# Altium integrated library Linear Technology Power Management Hot Swap Controllers.IntLib: 992 symbols (part 29 of 93)
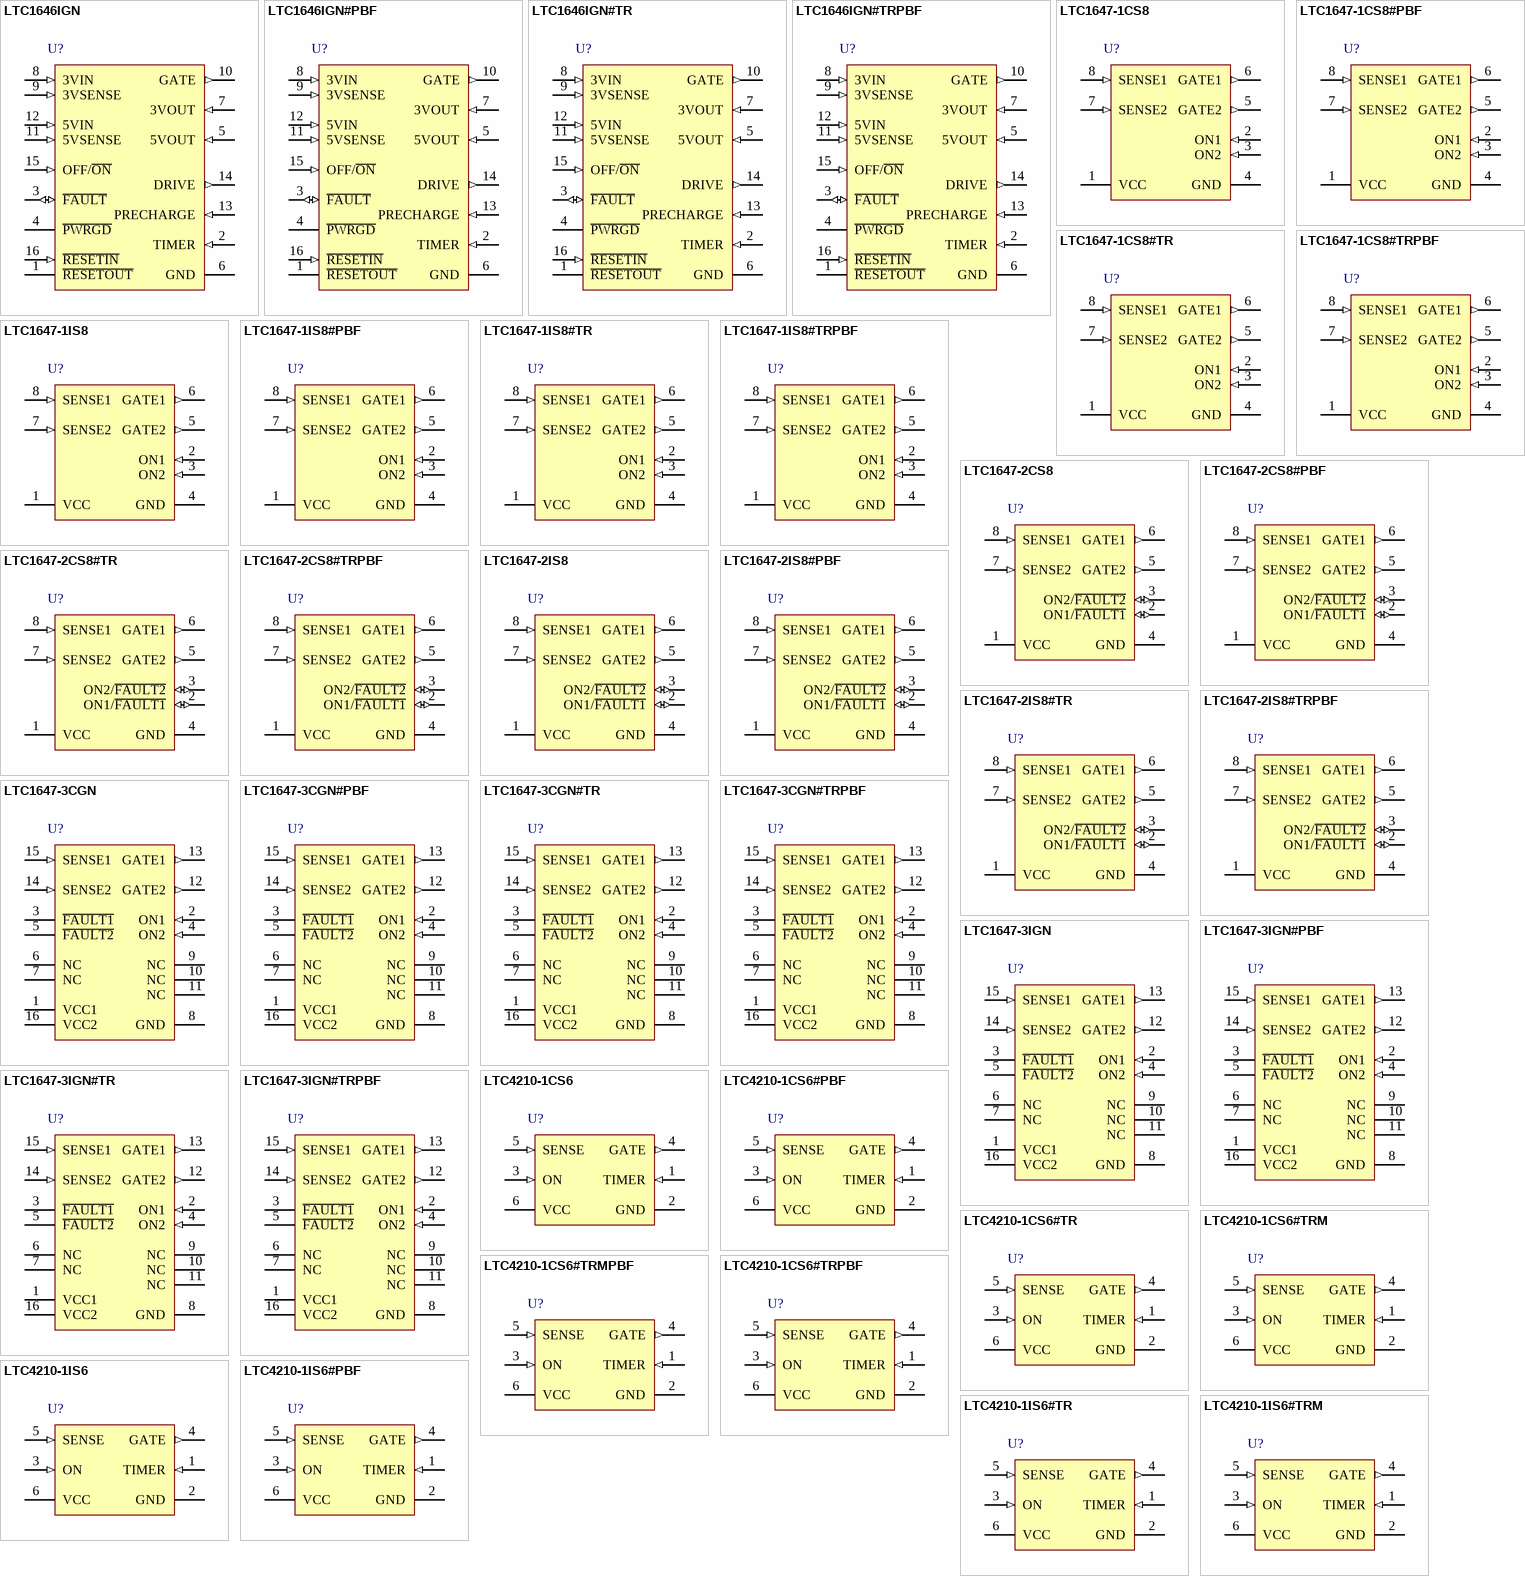
[diagram p65: symbols LTC1646IGN to LTC4210-1IS6#TRM]

## LTC4210-1IS6#PBF
designator U?
Hot Swap Controller, 2.7 to 16.5 V Vin, 6-pin SOT23 (S6-6), -40 to 85 degC, Pb-Free; Manufacturer: Linear Technology; PartNumber: LTC4210-1IS6#PBF; Active Limiting: yes; Circuit Breaker Accuracy(%): 12; Circuit Breaker Threshold: 50 mV; Circuit Breakers(#): 1; Extended Temp: C, I; Fast Comparator: no; In-Rush Current: Active; PackageVersion: Jun-10; PackageReference: S6-6; PackageDescription: 6-Pin Plastic TSOT-23, Body 2.9 x 1.63 mm, Pitch 0.95 mm; Supplier 1: Farnell; Supplier Part Number 1: 2308154; Supplier 2: Newark; Supplier Part Number 2: 78T3308; Fault: no; Foldback: no; Power Good: no; Reset: no; RoHS: TRUE; Vin Range: 2.7 to 16.5 V; Mounting Technology: Surface Mount; Code_JEDEC: MO-193; ComponentLink1Description: Manufacturer URL; ComponentLink1URL: http://www.linear.com/; ComponentLink2Description: Datasheet; ComponentLink2URL: http://cds.linear.com/docs/en/datasheet/421012f.pdf; ComponentLink3Description: Package Specification; ComponentLink3URL: http://cds.linear.com/docs/en/packaging/SOT_6_05-08-1636.pdf
footprint LT-S6-6-TSOT-23_N (SOT23, 6-Leads, Body 2.9x1.75mm, Pitch 0.95mm, IPC Medium Density)
footprint LT-S6-6-TSOT-23_L (SOT23, 6-Leads, Body 2.9x1.75mm, Pitch 0.95mm, IPC High Density)
footprint LT-S6-6-TSOT-23_M (SOT23, 6-Leads, Body 2.9x1.75mm, Pitch 0.95mm, IPC Low Density)
pins: 1 TIMER (in) "Timer Input Pin. An external capacitor CTIMER sets a 272.9ms/µF initial timing delay and a 21.7ms/µF circuit breaker delay. (See Datasheet)", 2 GND (power) "GND (Pin 2): Ground Pin.", 3 ON (in) "ON (Pin 3): ON Input Pin. The ON pin comparator has a low-to-high threshold of 1.3V with 80mV hysteresis and a glitch filter. When the ON pin is low, the LTC4210 is reset. When the ON pin goes high, the GATE turns on after (See Datasheet)", 4 GATE (out) "GATE Output Pin. This pin is the high side gate drive of an external N-channel MOSFET. An internal charge pump provides a 10µA pull-up current with Zener clamps to VCC and ground. (See Datasheet)", 5 SENSE (in) "SENSE (Pin 5): Current Limit Sense Input Pin. A sense resistor between the VCC and SENSE pins sets the analog current limit. In overload, the EA controls the external MOSFET gate to maintain the SENSE pin voltage at 50mV (See Datasheet)", 6 VCC (power) "Positive Supply Input Pin. The operating supply voltage range is between 2.7V to 7V. An undervoltage lockout (UVLO) circuit with a glitch filter resets the LTC4210 when a low supply voltage is detected. (See Datasheet)"

## LTC4210-1IS6#TR
designator U?
Hot Swap Controller, 2.7 to 16.5 V Vin, 6-pin SOT23 (S6-6), -40 to 85 degC, Tape and Reel; Manufacturer: Linear Technology; PartNumber: LTC4210-1IS6#TR; Active Limiting: yes; Circuit Breaker Accuracy(%): 12; Circuit Breaker Threshold: 50 mV; Circuit Breakers(#): 1; Extended Temp: C, I; Fast Comparator: no; In-Rush Current: Active; PackageVersion: Jun-10; PackageReference: S6-6; PackageDescription: 6-Pin Plastic TSOT-23, Body 2.9 x 1.63 mm, Pitch 0.95 mm; Supplier 1: Digi-Key; Supplier Part Number 1: LTC4210-1IS6#TR-ND; Supplier 2: Newark; Supplier Part Number 2: 56M8739; Fault: no; Foldback: no; Packing: Tape and Reel; Power Good: no; Reset: no; RoHS: FALSE; Vin Range: 2.7 to 16.5 V; Mounting Technology: Surface Mount; Code_JEDEC: MO-193; ComponentLink1Description: Manufacturer URL; ComponentLink1URL: http://www.linear.com/; ComponentLink2Description: Datasheet; ComponentLink2URL: http://cds.linear.com/docs/en/datasheet/421012f.pdf; ComponentLink3Description: Package Specification; ComponentLink3URL: http://cds.linear.com/docs/en/packaging/SOT_6_05-08-1636.pdf
footprint LT-S6-6-TSOT-23_N (SOT23, 6-Leads, Body 2.9x1.75mm, Pitch 0.95mm, IPC Medium Density)
footprint LT-S6-6-TSOT-23_L (SOT23, 6-Leads, Body 2.9x1.75mm, Pitch 0.95mm, IPC High Density)
footprint LT-S6-6-TSOT-23_M (SOT23, 6-Leads, Body 2.9x1.75mm, Pitch 0.95mm, IPC Low Density)
pins: 1 TIMER (in) "Timer Input Pin. An external capacitor CTIMER sets a 272.9ms/µF initial timing delay and a 21.7ms/µF circuit breaker delay. (See Datasheet)", 2 GND (power) "GND (Pin 2): Ground Pin.", 3 ON (in) "ON (Pin 3): ON Input Pin. The ON pin comparator has a low-to-high threshold of 1.3V with 80mV hysteresis and a glitch filter. When the ON pin is low, the LTC4210 is reset. When the ON pin goes high, the GATE turns on after (See Datasheet)", 4 GATE (out) "GATE Output Pin. This pin is the high side gate drive of an external N-channel MOSFET. An internal charge pump provides a 10µA pull-up current with Zener clamps to VCC and ground. (See Datasheet)", 5 SENSE (in) "SENSE (Pin 5): Current Limit Sense Input Pin. A sense resistor between the VCC and SENSE pins sets the analog current limit. In overload, the EA controls the external MOSFET gate to maintain the SENSE pin voltage at 50mV (See Datasheet)", 6 VCC (power) "Positive Supply Input Pin. The operating supply voltage range is between 2.7V to 7V. An undervoltage lockout (UVLO) circuit with a glitch filter resets the LTC4210 when a low supply voltage is detected. (See Datasheet)"

## LTC4210-1IS6#TRM
designator U?
Hot Swap Controller, 2.7 to 16.5 V Vin, 6-pin SOT23 (S6-6), -40 to 85 degC, Mini Tape and Reel; Manufacturer: Linear Technology; PartNumber: LTC4210-1IS6#TRM; Active Limiting: yes; Circuit Breaker Accuracy(%): 12; Circuit Breaker Threshold: 50 mV; Circuit Breakers(#): 1; Extended Temp: C, I; Fast Comparator: no; In-Rush Current: Active; PackageVersion: Jun-10; PackageReference: S6-6; PackageDescription: 6-Pin Plastic TSOT-23, Body 2.9 x 1.63 mm, Pitch 0.95 mm; Supplier 1: Digi-Key; Supplier Part Number 1: LTC4210-1IS6#TRMTR-ND; Supplier 2: Digi-Key; Supplier Part Number 2: LTC4210-1IS6#TRMCT-ND; Fault: no; Foldback: no; Packing: Mini Tape and Reel; Power Good: no; Reset: no; RoHS: FALSE; Vin Range: 2.7 to 16.5 V; Mounting Technology: Surface Mount; Code_JEDEC: MO-193; ComponentLink1Description: Manufacturer URL; ComponentLink1URL: http://www.linear.com/; ComponentLink2Description: Datasheet; ComponentLink2URL: http://cds.linear.com/docs/en/datasheet/421012f.pdf; ComponentLink3Description: Package Specification; ComponentLink3URL: http://cds.linear.com/docs/en/packaging/SOT_6_05-08-1636.pdf
footprint LT-S6-6-TSOT-23_N (SOT23, 6-Leads, Body 2.9x1.75mm, Pitch 0.95mm, IPC Medium Density)
footprint LT-S6-6-TSOT-23_L (SOT23, 6-Leads, Body 2.9x1.75mm, Pitch 0.95mm, IPC High Density)
footprint LT-S6-6-TSOT-23_M (SOT23, 6-Leads, Body 2.9x1.75mm, Pitch 0.95mm, IPC Low Density)
pins: 1 TIMER (in) "Timer Input Pin. An external capacitor CTIMER sets a 272.9ms/µF initial timing delay and a 21.7ms/µF circuit breaker delay. (See Datasheet)", 2 GND (power) "GND (Pin 2): Ground Pin.", 3 ON (in) "ON (Pin 3): ON Input Pin. The ON pin comparator has a low-to-high threshold of 1.3V with 80mV hysteresis and a glitch filter. When the ON pin is low, the LTC4210 is reset. When the ON pin goes high, the GATE turns on after (See Datasheet)", 4 GATE (out) "GATE Output Pin. This pin is the high side gate drive of an external N-channel MOSFET. An internal charge pump provides a 10µA pull-up current with Zener clamps to VCC and ground. (See Datasheet)", 5 SENSE (in) "SENSE (Pin 5): Current Limit Sense Input Pin. A sense resistor between the VCC and SENSE pins sets the analog current limit. In overload, the EA controls the external MOSFET gate to maintain the SENSE pin voltage at 50mV (See Datasheet)", 6 VCC (power) "Positive Supply Input Pin. The operating supply voltage range is between 2.7V to 7V. An undervoltage lockout (UVLO) circuit with a glitch filter resets the LTC4210 when a low supply voltage is detected. (See Datasheet)"

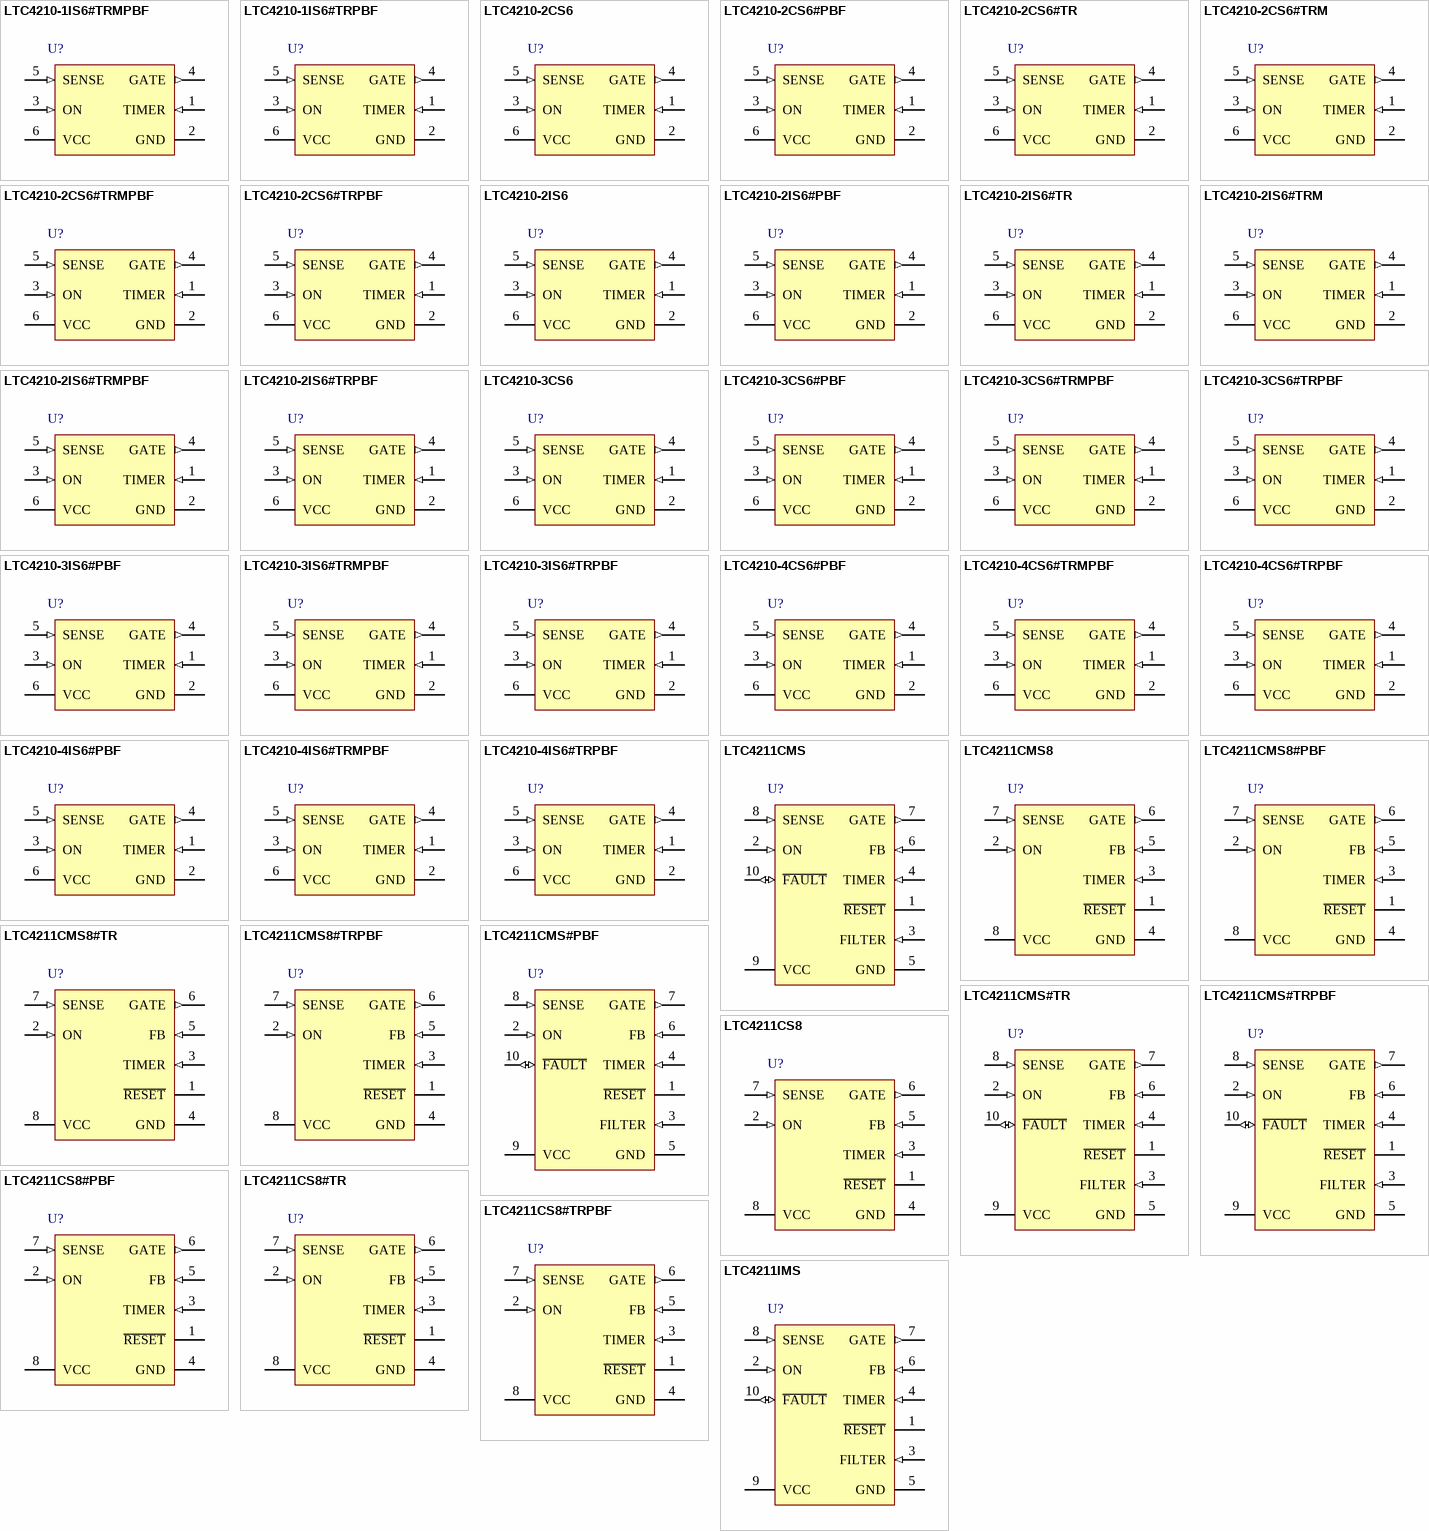
[diagram p12: symbols LTC4210-1IS6#TRMPBF to LTC4211IMS]

## LTC4210-1IS6#TRMPBF
designator U?
Hot Swap Controller, 2.7 to 16.5 V Vin, 6-pin SOT23 (S6-6), -40 to 85 degC, Pb-Free, Mini Tape and Reel; Manufacturer: Linear Technology; PartNumber: LTC4210-1IS6#TRMPBF; Active Limiting: yes; Circuit Breaker Accuracy(%): 12; Circuit Breaker Threshold: 50 mV; Circuit Breakers(#): 1; Extended Temp: C, I; Fast Comparator: no; In-Rush Current: Active; PackageVersion: Jun-10; PackageReference: S6-6; PackageDescription: 6-Pin Plastic TSOT-23, Body 2.9 x 1.63 mm, Pitch 0.95 mm; Supplier 1: Digi-Key; Supplier Part Number 1: LTC4210-1IS6#TRMPBFTR-ND; Supplier 2: Digi-Key; Supplier Part Number 2: LTC4210-1IS6#TRMPBFCT-ND; Supplier 3: Digi-Key; Supplier Part Number 3: LTC4210-1IS6#TRMPBFDKR-ND; Supplier 4: Farnell; Supplier Part Number 4: 1663912; Supplier 5: Newark; Supplier Part Number 5: 59M8275; Supplier 6: Newark; Supplier Part Number 6: 56M8741; Fault: no; Foldback: no; Packing: Mini Tape and Reel; Power Good: no; Reset: no; RoHS: TRUE; Vin Range: 2.7 to 16.5 V; Mounting Technology: Surface Mount; Code_JEDEC: MO-193; ComponentLink1Description: Manufacturer URL; ComponentLink1URL: http://www.linear.com/; ComponentLink2Description: Datasheet; ComponentLink2URL: http://cds.linear.com/docs/en/datasheet/421012f.pdf; ComponentLink3Description: Package Specification; ComponentLink3URL: http://cds.linear.com/docs/en/packaging/SOT_6_05-08-1636.pdf
footprint LT-S6-6-TSOT-23_N (SOT23, 6-Leads, Body 2.9x1.75mm, Pitch 0.95mm, IPC Medium Density)
footprint LT-S6-6-TSOT-23_L (SOT23, 6-Leads, Body 2.9x1.75mm, Pitch 0.95mm, IPC High Density)
footprint LT-S6-6-TSOT-23_M (SOT23, 6-Leads, Body 2.9x1.75mm, Pitch 0.95mm, IPC Low Density)
pins: 1 TIMER (in) "Timer Input Pin. An external capacitor CTIMER sets a 272.9ms/µF initial timing delay and a 21.7ms/µF circuit breaker delay. (See Datasheet)", 2 GND (power) "GND (Pin 2): Ground Pin.", 3 ON (in) "ON (Pin 3): ON Input Pin. The ON pin comparator has a low-to-high threshold of 1.3V with 80mV hysteresis and a glitch filter. When the ON pin is low, the LTC4210 is reset. When the ON pin goes high, the GATE turns on after (See Datasheet)", 4 GATE (out) "GATE Output Pin. This pin is the high side gate drive of an external N-channel MOSFET. An internal charge pump provides a 10µA pull-up current with Zener clamps to VCC and ground. (See Datasheet)", 5 SENSE (in) "SENSE (Pin 5): Current Limit Sense Input Pin. A sense resistor between the VCC and SENSE pins sets the analog current limit. In overload, the EA controls the external MOSFET gate to maintain the SENSE pin voltage at 50mV (See Datasheet)", 6 VCC (power) "Positive Supply Input Pin. The operating supply voltage range is between 2.7V to 7V. An undervoltage lockout (UVLO) circuit with a glitch filter resets the LTC4210 when a low supply voltage is detected. (See Datasheet)"

## LTC4210-1IS6#TRPBF
designator U?
Hot Swap Controller, 2.7 to 16.5 V Vin, 6-pin SOT23 (S6-6), -40 to 85 degC, Pb-Free, Tape and Reel; Manufacturer: Linear Technology; PartNumber: LTC4210-1IS6#TRPBF; Active Limiting: yes; Circuit Breaker Accuracy(%): 12; Circuit Breaker Threshold: 50 mV; Circuit Breakers(#): 1; Extended Temp: C, I; Fast Comparator: no; In-Rush Current: Active; PackageVersion: Jun-10; PackageReference: S6-6; PackageDescription: 6-Pin Plastic TSOT-23, Body 2.9 x 1.63 mm, Pitch 0.95 mm; Supplier 1: Digi-Key; Supplier Part Number 1: LTC4210-1IS6#TRPBF-ND; Supplier 2: Newark; Supplier Part Number 2: 56M8742; Fault: no; Foldback: no; Packing: Tape and Reel; Power Good: no; Reset: no; RoHS: TRUE; Vin Range: 2.7 to 16.5 V; Mounting Technology: Surface Mount; Code_JEDEC: MO-193; ComponentLink1Description: Manufacturer URL; ComponentLink1URL: http://www.linear.com/; ComponentLink2Description: Datasheet; ComponentLink2URL: http://cds.linear.com/docs/en/datasheet/421012f.pdf; ComponentLink3Description: Package Specification; ComponentLink3URL: http://cds.linear.com/docs/en/packaging/SOT_6_05-08-1636.pdf
footprint LT-S6-6-TSOT-23_N (SOT23, 6-Leads, Body 2.9x1.75mm, Pitch 0.95mm, IPC Medium Density)
footprint LT-S6-6-TSOT-23_L (SOT23, 6-Leads, Body 2.9x1.75mm, Pitch 0.95mm, IPC High Density)
footprint LT-S6-6-TSOT-23_M (SOT23, 6-Leads, Body 2.9x1.75mm, Pitch 0.95mm, IPC Low Density)
pins: 1 TIMER (in) "Timer Input Pin. An external capacitor CTIMER sets a 272.9ms/µF initial timing delay and a 21.7ms/µF circuit breaker delay. (See Datasheet)", 2 GND (power) "GND (Pin 2): Ground Pin.", 3 ON (in) "ON (Pin 3): ON Input Pin. The ON pin comparator has a low-to-high threshold of 1.3V with 80mV hysteresis and a glitch filter. When the ON pin is low, the LTC4210 is reset. When the ON pin goes high, the GATE turns on after (See Datasheet)", 4 GATE (out) "GATE Output Pin. This pin is the high side gate drive of an external N-channel MOSFET. An internal charge pump provides a 10µA pull-up current with Zener clamps to VCC and ground. (See Datasheet)", 5 SENSE (in) "SENSE (Pin 5): Current Limit Sense Input Pin. A sense resistor between the VCC and SENSE pins sets the analog current limit. In overload, the EA controls the external MOSFET gate to maintain the SENSE pin voltage at 50mV (See Datasheet)", 6 VCC (power) "Positive Supply Input Pin. The operating supply voltage range is between 2.7V to 7V. An undervoltage lockout (UVLO) circuit with a glitch filter resets the LTC4210 when a low supply voltage is detected. (See Datasheet)"

## LTC4210-2CS6
designator U?
Hot Swap Controller, 2.7 to 16.5 V Vin, 6-pin SOT23 (S6-6), 0 to 70 degC; Manufacturer: Linear Technology; PartNumber: LTC4210-2CS6; Active Limiting: yes; Circuit Breaker Accuracy(%): 12; Circuit Breaker Threshold: 50 mV; Circuit Breakers(#): 1; Extended Temp: C, I; Fast Comparator: no; In-Rush Current: Active; PackageVersion: Jun-10; PackageReference: S6-6; PackageDescription: 6-Pin Plastic TSOT-23, Body 2.9 x 1.63 mm, Pitch 0.95 mm; Fault: no; Foldback: no; Power Good: no; Reset: no; RoHS: FALSE; Vin Range: 2.7 to 16.5 V; Mounting Technology: Surface Mount; Code_JEDEC: MO-193; ComponentLink1Description: Manufacturer URL; ComponentLink1URL: http://www.linear.com/; ComponentLink2Description: Datasheet; ComponentLink2URL: http://cds.linear.com/docs/en/datasheet/421012f.pdf; ComponentLink3Description: Package Specification; ComponentLink3URL: http://cds.linear.com/docs/en/packaging/SOT_6_05-08-1636.pdf
footprint LT-S6-6-TSOT-23_N (SOT23, 6-Leads, Body 2.9x1.75mm, Pitch 0.95mm, IPC Medium Density)
footprint LT-S6-6-TSOT-23_L (SOT23, 6-Leads, Body 2.9x1.75mm, Pitch 0.95mm, IPC High Density)
footprint LT-S6-6-TSOT-23_M (SOT23, 6-Leads, Body 2.9x1.75mm, Pitch 0.95mm, IPC Low Density)
pins: 1 TIMER (in) "Timer Input Pin. An external capacitor CTIMER sets a 272.9ms/µF initial timing delay and a 21.7ms/µF circuit breaker delay. (See Datasheet)", 2 GND (power) "GND (Pin 2): Ground Pin.", 3 ON (in) "ON (Pin 3): ON Input Pin. The ON pin comparator has a low-to-high threshold of 1.3V with 80mV hysteresis and a glitch filter. When the ON pin is low, the LTC4210 is reset. When the ON pin goes high, the GATE turns on after (See Datasheet)", 4 GATE (out) "GATE Output Pin. This pin is the high side gate drive of an external N-channel MOSFET. An internal charge pump provides a 10µA pull-up current with Zener clamps to VCC and ground. (See Datasheet)", 5 SENSE (in) "SENSE (Pin 5): Current Limit Sense Input Pin. A sense resistor between the VCC and SENSE pins sets the analog current limit. In overload, the EA controls the external MOSFET gate to maintain the SENSE pin voltage at 50mV (See Datasheet)", 6 VCC (power) "Positive Supply Input Pin. The operating supply voltage range is between 2.7V to 7V. An undervoltage lockout (UVLO) circuit with a glitch filter resets the LTC4210 when a low supply voltage is detected. (See Datasheet)"

## LTC4210-2CS6#PBF
designator U?
Hot Swap Controller, 2.7 to 16.5 V Vin, 6-pin SOT23 (S6-6), 0 to 70 degC, Pb-Free; Manufacturer: Linear Technology; PartNumber: LTC4210-2CS6#PBF; Active Limiting: yes; Circuit Breaker Accuracy(%): 12; Circuit Breaker Threshold: 50 mV; Circuit Breakers(#): 1; Extended Temp: C, I; Fast Comparator: no; In-Rush Current: Active; PackageVersion: Jun-10; PackageReference: S6-6; PackageDescription: 6-Pin Plastic TSOT-23, Body 2.9 x 1.63 mm, Pitch 0.95 mm; Supplier 1: Newark; Supplier Part Number 1: 64T2760; Fault: no; Foldback: no; Power Good: no; Reset: no; RoHS: TRUE; Vin Range: 2.7 to 16.5 V; Mounting Technology: Surface Mount; Code_JEDEC: MO-193; ComponentLink1Description: Manufacturer URL; ComponentLink1URL: http://www.linear.com/; ComponentLink2Description: Datasheet; ComponentLink2URL: http://cds.linear.com/docs/en/datasheet/421012f.pdf; ComponentLink3Description: Package Specification; ComponentLink3URL: http://cds.linear.com/docs/en/packaging/SOT_6_05-08-1636.pdf
footprint LT-S6-6-TSOT-23_N (SOT23, 6-Leads, Body 2.9x1.75mm, Pitch 0.95mm, IPC Medium Density)
footprint LT-S6-6-TSOT-23_L (SOT23, 6-Leads, Body 2.9x1.75mm, Pitch 0.95mm, IPC High Density)
footprint LT-S6-6-TSOT-23_M (SOT23, 6-Leads, Body 2.9x1.75mm, Pitch 0.95mm, IPC Low Density)
pins: 1 TIMER (in) "Timer Input Pin. An external capacitor CTIMER sets a 272.9ms/µF initial timing delay and a 21.7ms/µF circuit breaker delay. (See Datasheet)", 2 GND (power) "GND (Pin 2): Ground Pin.", 3 ON (in) "ON (Pin 3): ON Input Pin. The ON pin comparator has a low-to-high threshold of 1.3V with 80mV hysteresis and a glitch filter. When the ON pin is low, the LTC4210 is reset. When the ON pin goes high, the GATE turns on after (See Datasheet)", 4 GATE (out) "GATE Output Pin. This pin is the high side gate drive of an external N-channel MOSFET. An internal charge pump provides a 10µA pull-up current with Zener clamps to VCC and ground. (See Datasheet)", 5 SENSE (in) "SENSE (Pin 5): Current Limit Sense Input Pin. A sense resistor between the VCC and SENSE pins sets the analog current limit. In overload, the EA controls the external MOSFET gate to maintain the SENSE pin voltage at 50mV (See Datasheet)", 6 VCC (power) "Positive Supply Input Pin. The operating supply voltage range is between 2.7V to 7V. An undervoltage lockout (UVLO) circuit with a glitch filter resets the LTC4210 when a low supply voltage is detected. (See Datasheet)"

## LTC4210-2CS6#TR
designator U?
Hot Swap Controller, 2.7 to 16.5 V Vin, 6-pin SOT23 (S6-6), 0 to 70 degC, Tape and Reel; Manufacturer: Linear Technology; PartNumber: LTC4210-2CS6#TR; Active Limiting: yes; Circuit Breaker Accuracy(%): 12; Circuit Breaker Threshold: 50 mV; Circuit Breakers(#): 1; Extended Temp: C, I; Fast Comparator: no; In-Rush Current: Active; PackageVersion: Jun-10; PackageReference: S6-6; PackageDescription: 6-Pin Plastic TSOT-23, Body 2.9 x 1.63 mm, Pitch 0.95 mm; Supplier 1: Digi-Key; Supplier Part Number 1: LTC4210-2CS6#TR-ND; Fault: no; Foldback: no; Packing: Tape and Reel; Power Good: no; Reset: no; RoHS: FALSE; Vin Range: 2.7 to 16.5 V; Mounting Technology: Surface Mount; Code_JEDEC: MO-193; ComponentLink1Description: Manufacturer URL; ComponentLink1URL: http://www.linear.com/; ComponentLink2Description: Datasheet; ComponentLink2URL: http://cds.linear.com/docs/en/datasheet/421012f.pdf; ComponentLink3Description: Package Specification; ComponentLink3URL: http://cds.linear.com/docs/en/packaging/SOT_6_05-08-1636.pdf
footprint LT-S6-6-TSOT-23_N (SOT23, 6-Leads, Body 2.9x1.75mm, Pitch 0.95mm, IPC Medium Density)
footprint LT-S6-6-TSOT-23_L (SOT23, 6-Leads, Body 2.9x1.75mm, Pitch 0.95mm, IPC High Density)
footprint LT-S6-6-TSOT-23_M (SOT23, 6-Leads, Body 2.9x1.75mm, Pitch 0.95mm, IPC Low Density)
pins: 1 TIMER (in) "Timer Input Pin. An external capacitor CTIMER sets a 272.9ms/µF initial timing delay and a 21.7ms/µF circuit breaker delay. (See Datasheet)", 2 GND (power) "GND (Pin 2): Ground Pin.", 3 ON (in) "ON (Pin 3): ON Input Pin. The ON pin comparator has a low-to-high threshold of 1.3V with 80mV hysteresis and a glitch filter. When the ON pin is low, the LTC4210 is reset. When the ON pin goes high, the GATE turns on after (See Datasheet)", 4 GATE (out) "GATE Output Pin. This pin is the high side gate drive of an external N-channel MOSFET. An internal charge pump provides a 10µA pull-up current with Zener clamps to VCC and ground. (See Datasheet)", 5 SENSE (in) "SENSE (Pin 5): Current Limit Sense Input Pin. A sense resistor between the VCC and SENSE pins sets the analog current limit. In overload, the EA controls the external MOSFET gate to maintain the SENSE pin voltage at 50mV (See Datasheet)", 6 VCC (power) "Positive Supply Input Pin. The operating supply voltage range is between 2.7V to 7V. An undervoltage lockout (UVLO) circuit with a glitch filter resets the LTC4210 when a low supply voltage is detected. (See Datasheet)"

## LTC4210-2CS6#TRM
designator U?
Hot Swap Controller, 2.7 to 16.5 V Vin, 6-pin SOT23 (S6-6), 0 to 70 degC, Mini Tape and Reel; Manufacturer: Linear Technology; PartNumber: LTC4210-2CS6#TRM; Active Limiting: yes; Circuit Breaker Accuracy(%): 12; Circuit Breaker Threshold: 50 mV; Circuit Breakers(#): 1; Extended Temp: C, I; Fast Comparator: no; In-Rush Current: Active; PackageVersion: Jun-10; PackageReference: S6-6; PackageDescription: 6-Pin Plastic TSOT-23, Body 2.9 x 1.63 mm, Pitch 0.95 mm; Supplier 1: Digi-Key; Supplier Part Number 1: LTC4210-2CS6#TRMCT-ND; Fault: no; Foldback: no; Packing: Mini Tape and Reel; Power Good: no; Reset: no; RoHS: FALSE; Vin Range: 2.7 to 16.5 V; Mounting Technology: Surface Mount; Code_JEDEC: MO-193; ComponentLink1Description: Manufacturer URL; ComponentLink1URL: http://www.linear.com/; ComponentLink2Description: Datasheet; ComponentLink2URL: http://cds.linear.com/docs/en/datasheet/421012f.pdf; ComponentLink3Description: Package Specification; ComponentLink3URL: http://cds.linear.com/docs/en/packaging/SOT_6_05-08-1636.pdf
footprint LT-S6-6-TSOT-23_N (SOT23, 6-Leads, Body 2.9x1.75mm, Pitch 0.95mm, IPC Medium Density)
footprint LT-S6-6-TSOT-23_L (SOT23, 6-Leads, Body 2.9x1.75mm, Pitch 0.95mm, IPC High Density)
footprint LT-S6-6-TSOT-23_M (SOT23, 6-Leads, Body 2.9x1.75mm, Pitch 0.95mm, IPC Low Density)
pins: 1 TIMER (in) "Timer Input Pin. An external capacitor CTIMER sets a 272.9ms/µF initial timing delay and a 21.7ms/µF circuit breaker delay. (See Datasheet)", 2 GND (power) "GND (Pin 2): Ground Pin.", 3 ON (in) "ON (Pin 3): ON Input Pin. The ON pin comparator has a low-to-high threshold of 1.3V with 80mV hysteresis and a glitch filter. When the ON pin is low, the LTC4210 is reset. When the ON pin goes high, the GATE turns on after (See Datasheet)", 4 GATE (out) "GATE Output Pin. This pin is the high side gate drive of an external N-channel MOSFET. An internal charge pump provides a 10µA pull-up current with Zener clamps to VCC and ground. (See Datasheet)", 5 SENSE (in) "SENSE (Pin 5): Current Limit Sense Input Pin. A sense resistor between the VCC and SENSE pins sets the analog current limit. In overload, the EA controls the external MOSFET gate to maintain the SENSE pin voltage at 50mV (See Datasheet)", 6 VCC (power) "Positive Supply Input Pin. The operating supply voltage range is between 2.7V to 7V. An undervoltage lockout (UVLO) circuit with a glitch filter resets the LTC4210 when a low supply voltage is detected. (See Datasheet)"

## LTC4210-2CS6#TRMPBF
designator U?
Hot Swap Controller, 2.7 to 16.5 V Vin, 6-pin SOT23 (S6-6), 0 to 70 degC, Pb-Free, Mini Tape and Reel; Manufacturer: Linear Technology; PartNumber: LTC4210-2CS6#TRMPBF; Active Limiting: yes; Circuit Breaker Accuracy(%): 12; Circuit Breaker Threshold: 50 mV; Circuit Breakers(#): 1; Extended Temp: C, I; Fast Comparator: no; In-Rush Current: Active; PackageVersion: Jun-10; PackageReference: S6-6; PackageDescription: 6-Pin Plastic TSOT-23, Body 2.9 x 1.63 mm, Pitch 0.95 mm; Supplier 1: Digi-Key; Supplier Part Number 1: LTC4210-2CS6#TRMPBFTR-ND; Supplier 2: Digi-Key; Supplier Part Number 2: LTC4210-2CS6#TRMPBFCT-ND; Supplier 3: Digi-Key; Supplier Part Number 3: LTC4210-2CS6#TRMPBFDKR-ND; Supplier 4: Farnell; Supplier Part Number 4: 1663913; Supplier 5: Newark; Supplier Part Number 5: 56M8745; Fault: no; Foldback: no; Packing: Mini Tape and Reel; Power Good: no; Reset: no; RoHS: TRUE; Vin Range: 2.7 to 16.5 V; Mounting Technology: Surface Mount; Code_JEDEC: MO-193; ComponentLink1Description: Manufacturer URL; ComponentLink1URL: http://www.linear.com/; ComponentLink2Description: Datasheet; ComponentLink2URL: http://cds.linear.com/docs/en/datasheet/421012f.pdf; ComponentLink3Description: Package Specification; ComponentLink3URL: http://cds.linear.com/docs/en/packaging/SOT_6_05-08-1636.pdf
footprint LT-S6-6-TSOT-23_N (SOT23, 6-Leads, Body 2.9x1.75mm, Pitch 0.95mm, IPC Medium Density)
footprint LT-S6-6-TSOT-23_L (SOT23, 6-Leads, Body 2.9x1.75mm, Pitch 0.95mm, IPC High Density)
footprint LT-S6-6-TSOT-23_M (SOT23, 6-Leads, Body 2.9x1.75mm, Pitch 0.95mm, IPC Low Density)
pins: 1 TIMER (in) "Timer Input Pin. An external capacitor CTIMER sets a 272.9ms/µF initial timing delay and a 21.7ms/µF circuit breaker delay. (See Datasheet)", 2 GND (power) "GND (Pin 2): Ground Pin.", 3 ON (in) "ON (Pin 3): ON Input Pin. The ON pin comparator has a low-to-high threshold of 1.3V with 80mV hysteresis and a glitch filter. When the ON pin is low, the LTC4210 is reset. When the ON pin goes high, the GATE turns on after (See Datasheet)", 4 GATE (out) "GATE Output Pin. This pin is the high side gate drive of an external N-channel MOSFET. An internal charge pump provides a 10µA pull-up current with Zener clamps to VCC and ground. (See Datasheet)", 5 SENSE (in) "SENSE (Pin 5): Current Limit Sense Input Pin. A sense resistor between the VCC and SENSE pins sets the analog current limit. In overload, the EA controls the external MOSFET gate to maintain the SENSE pin voltage at 50mV (See Datasheet)", 6 VCC (power) "Positive Supply Input Pin. The operating supply voltage range is between 2.7V to 7V. An undervoltage lockout (UVLO) circuit with a glitch filter resets the LTC4210 when a low supply voltage is detected. (See Datasheet)"

## LTC4210-2CS6#TRPBF
designator U?
Hot Swap Controller, 2.7 to 16.5 V Vin, 6-pin SOT23 (S6-6), 0 to 70 degC, Pb-Free, Tape and Reel; Manufacturer: Linear Technology; PartNumber: LTC4210-2CS6#TRPBF; Active Limiting: yes; Circuit Breaker Accuracy(%): 12; Circuit Breaker Threshold: 50 mV; Circuit Breakers(#): 1; Extended Temp: C, I; Fast Comparator: no; In-Rush Current: Active; PackageVersion: Jun-10; PackageReference: S6-6; PackageDescription: 6-Pin Plastic TSOT-23, Body 2.9 x 1.63 mm, Pitch 0.95 mm; Supplier 1: Digi-Key; Supplier Part Number 1: LTC4210-2CS6#TRPBF-ND; Supplier 2: Newark; Supplier Part Number 2: 56M8746; Fault: no; Foldback: no; Packing: Tape and Reel; Power Good: no; Reset: no; RoHS: TRUE; Vin Range: 2.7 to 16.5 V; Mounting Technology: Surface Mount; Code_JEDEC: MO-193; ComponentLink1Description: Manufacturer URL; ComponentLink1URL: http://www.linear.com/; ComponentLink2Description: Datasheet; ComponentLink2URL: http://cds.linear.com/docs/en/datasheet/421012f.pdf; ComponentLink3Description: Package Specification; ComponentLink3URL: http://cds.linear.com/docs/en/packaging/SOT_6_05-08-1636.pdf
footprint LT-S6-6-TSOT-23_N (SOT23, 6-Leads, Body 2.9x1.75mm, Pitch 0.95mm, IPC Medium Density)
footprint LT-S6-6-TSOT-23_L (SOT23, 6-Leads, Body 2.9x1.75mm, Pitch 0.95mm, IPC High Density)
footprint LT-S6-6-TSOT-23_M (SOT23, 6-Leads, Body 2.9x1.75mm, Pitch 0.95mm, IPC Low Density)
pins: 1 TIMER (in) "Timer Input Pin. An external capacitor CTIMER sets a 272.9ms/µF initial timing delay and a 21.7ms/µF circuit breaker delay. (See Datasheet)", 2 GND (power) "GND (Pin 2): Ground Pin.", 3 ON (in) "ON (Pin 3): ON Input Pin. The ON pin comparator has a low-to-high threshold of 1.3V with 80mV hysteresis and a glitch filter. When the ON pin is low, the LTC4210 is reset. When the ON pin goes high, the GATE turns on after (See Datasheet)", 4 GATE (out) "GATE Output Pin. This pin is the high side gate drive of an external N-channel MOSFET. An internal charge pump provides a 10µA pull-up current with Zener clamps to VCC and ground. (See Datasheet)", 5 SENSE (in) "SENSE (Pin 5): Current Limit Sense Input Pin. A sense resistor between the VCC and SENSE pins sets the analog current limit. In overload, the EA controls the external MOSFET gate to maintain the SENSE pin voltage at 50mV (See Datasheet)", 6 VCC (power) "Positive Supply Input Pin. The operating supply voltage range is between 2.7V to 7V. An undervoltage lockout (UVLO) circuit with a glitch filter resets the LTC4210 when a low supply voltage is detected. (See Datasheet)"

## LTC4210-2IS6
designator U?
Hot Swap Controller, 2.7 to 16.5 V Vin, 6-pin SOT23 (S6-6), -40 to 85 degC; Manufacturer: Linear Technology; PartNumber: LTC4210-2IS6; Active Limiting: yes; Circuit Breaker Accuracy(%): 12; Circuit Breaker Threshold: 50 mV; Circuit Breakers(#): 1; Extended Temp: C, I; Fast Comparator: no; In-Rush Current: Active; PackageVersion: Jun-10; PackageReference: S6-6; PackageDescription: 6-Pin Plastic TSOT-23, Body 2.9 x 1.63 mm, Pitch 0.95 mm; Fault: no; Foldback: no; Power Good: no; Reset: no; RoHS: FALSE; Vin Range: 2.7 to 16.5 V; Mounting Technology: Surface Mount; Code_JEDEC: MO-193; ComponentLink1Description: Manufacturer URL; ComponentLink1URL: http://www.linear.com/; ComponentLink2Description: Datasheet; ComponentLink2URL: http://cds.linear.com/docs/en/datasheet/421012f.pdf; ComponentLink3Description: Package Specification; ComponentLink3URL: http://cds.linear.com/docs/en/packaging/SOT_6_05-08-1636.pdf
footprint LT-S6-6-TSOT-23_N (SOT23, 6-Leads, Body 2.9x1.75mm, Pitch 0.95mm, IPC Medium Density)
footprint LT-S6-6-TSOT-23_L (SOT23, 6-Leads, Body 2.9x1.75mm, Pitch 0.95mm, IPC High Density)
footprint LT-S6-6-TSOT-23_M (SOT23, 6-Leads, Body 2.9x1.75mm, Pitch 0.95mm, IPC Low Density)
pins: 1 TIMER (in) "Timer Input Pin. An external capacitor CTIMER sets a 272.9ms/µF initial timing delay and a 21.7ms/µF circuit breaker delay. (See Datasheet)", 2 GND (power) "GND (Pin 2): Ground Pin.", 3 ON (in) "ON (Pin 3): ON Input Pin. The ON pin comparator has a low-to-high threshold of 1.3V with 80mV hysteresis and a glitch filter. When the ON pin is low, the LTC4210 is reset. When the ON pin goes high, the GATE turns on after (See Datasheet)", 4 GATE (out) "GATE Output Pin. This pin is the high side gate drive of an external N-channel MOSFET. An internal charge pump provides a 10µA pull-up current with Zener clamps to VCC and ground. (See Datasheet)", 5 SENSE (in) "SENSE (Pin 5): Current Limit Sense Input Pin. A sense resistor between the VCC and SENSE pins sets the analog current limit. In overload, the EA controls the external MOSFET gate to maintain the SENSE pin voltage at 50mV (See Datasheet)", 6 VCC (power) "Positive Supply Input Pin. The operating supply voltage range is between 2.7V to 7V. An undervoltage lockout (UVLO) circuit with a glitch filter resets the LTC4210 when a low supply voltage is detected. (See Datasheet)"

## LTC4210-2IS6#PBF
designator U?
Hot Swap Controller, 2.7 to 16.5 V Vin, 6-pin SOT23 (S6-6), -40 to 85 degC, Pb-Free; Manufacturer: Linear Technology; PartNumber: LTC4210-2IS6#PBF; Active Limiting: yes; Circuit Breaker Accuracy(%): 12; Circuit Breaker Threshold: 50 mV; Circuit Breakers(#): 1; Extended Temp: C, I; Fast Comparator: no; In-Rush Current: Active; PackageVersion: Jun-10; PackageReference: S6-6; PackageDescription: 6-Pin Plastic TSOT-23, Body 2.9 x 1.63 mm, Pitch 0.95 mm; Supplier 1: Farnell; Supplier Part Number 1: 2295322; Supplier 2: Newark; Supplier Part Number 2: 78T3309; Fault: no; Foldback: no; Power Good: no; Reset: no; RoHS: TRUE; Vin Range: 2.7 to 16.5 V; Mounting Technology: Surface Mount; Code_JEDEC: MO-193; ComponentLink1Description: Manufacturer URL; ComponentLink1URL: http://www.linear.com/; ComponentLink2Description: Datasheet; ComponentLink2URL: http://cds.linear.com/docs/en/datasheet/421012f.pdf; ComponentLink3Description: Package Specification; ComponentLink3URL: http://cds.linear.com/docs/en/packaging/SOT_6_05-08-1636.pdf
footprint LT-S6-6-TSOT-23_N (SOT23, 6-Leads, Body 2.9x1.75mm, Pitch 0.95mm, IPC Medium Density)
footprint LT-S6-6-TSOT-23_L (SOT23, 6-Leads, Body 2.9x1.75mm, Pitch 0.95mm, IPC High Density)
footprint LT-S6-6-TSOT-23_M (SOT23, 6-Leads, Body 2.9x1.75mm, Pitch 0.95mm, IPC Low Density)
pins: 1 TIMER (in) "Timer Input Pin. An external capacitor CTIMER sets a 272.9ms/µF initial timing delay and a 21.7ms/µF circuit breaker delay. (See Datasheet)", 2 GND (power) "GND (Pin 2): Ground Pin.", 3 ON (in) "ON (Pin 3): ON Input Pin. The ON pin comparator has a low-to-high threshold of 1.3V with 80mV hysteresis and a glitch filter. When the ON pin is low, the LTC4210 is reset. When the ON pin goes high, the GATE turns on after (See Datasheet)", 4 GATE (out) "GATE Output Pin. This pin is the high side gate drive of an external N-channel MOSFET. An internal charge pump provides a 10µA pull-up current with Zener clamps to VCC and ground. (See Datasheet)", 5 SENSE (in) "SENSE (Pin 5): Current Limit Sense Input Pin. A sense resistor between the VCC and SENSE pins sets the analog current limit. In overload, the EA controls the external MOSFET gate to maintain the SENSE pin voltage at 50mV (See Datasheet)", 6 VCC (power) "Positive Supply Input Pin. The operating supply voltage range is between 2.7V to 7V. An undervoltage lockout (UVLO) circuit with a glitch filter resets the LTC4210 when a low supply voltage is detected. (See Datasheet)"

## LTC4210-2IS6#TR
designator U?
Hot Swap Controller, 2.7 to 16.5 V Vin, 6-pin SOT23 (S6-6), -40 to 85 degC, Tape and Reel; Manufacturer: Linear Technology; PartNumber: LTC4210-2IS6#TR; Active Limiting: yes; Circuit Breaker Accuracy(%): 12; Circuit Breaker Threshold: 50 mV; Circuit Breakers(#): 1; Extended Temp: C, I; Fast Comparator: no; In-Rush Current: Active; PackageVersion: Jun-10; PackageReference: S6-6; PackageDescription: 6-Pin Plastic TSOT-23, Body 2.9 x 1.63 mm, Pitch 0.95 mm; Supplier 1: Digi-Key; Supplier Part Number 1: LTC4210-2IS6#TR-ND; Fault: no; Foldback: no; Packing: Tape and Reel; Power Good: no; Reset: no; RoHS: FALSE; Vin Range: 2.7 to 16.5 V; Mounting Technology: Surface Mount; Code_JEDEC: MO-193; ComponentLink1Description: Manufacturer URL; ComponentLink1URL: http://www.linear.com/; ComponentLink2Description: Datasheet; ComponentLink2URL: http://cds.linear.com/docs/en/datasheet/421012f.pdf; ComponentLink3Description: Package Specification; ComponentLink3URL: http://cds.linear.com/docs/en/packaging/SOT_6_05-08-1636.pdf
footprint LT-S6-6-TSOT-23_N (SOT23, 6-Leads, Body 2.9x1.75mm, Pitch 0.95mm, IPC Medium Density)
footprint LT-S6-6-TSOT-23_L (SOT23, 6-Leads, Body 2.9x1.75mm, Pitch 0.95mm, IPC High Density)
footprint LT-S6-6-TSOT-23_M (SOT23, 6-Leads, Body 2.9x1.75mm, Pitch 0.95mm, IPC Low Density)
pins: 1 TIMER (in) "Timer Input Pin. An external capacitor CTIMER sets a 272.9ms/µF initial timing delay and a 21.7ms/µF circuit breaker delay. (See Datasheet)", 2 GND (power) "GND (Pin 2): Ground Pin.", 3 ON (in) "ON (Pin 3): ON Input Pin. The ON pin comparator has a low-to-high threshold of 1.3V with 80mV hysteresis and a glitch filter. When the ON pin is low, the LTC4210 is reset. When the ON pin goes high, the GATE turns on after (See Datasheet)", 4 GATE (out) "GATE Output Pin. This pin is the high side gate drive of an external N-channel MOSFET. An internal charge pump provides a 10µA pull-up current with Zener clamps to VCC and ground. (See Datasheet)", 5 SENSE (in) "SENSE (Pin 5): Current Limit Sense Input Pin. A sense resistor between the VCC and SENSE pins sets the analog current limit. In overload, the EA controls the external MOSFET gate to maintain the SENSE pin voltage at 50mV (See Datasheet)", 6 VCC (power) "Positive Supply Input Pin. The operating supply voltage range is between 2.7V to 7V. An undervoltage lockout (UVLO) circuit with a glitch filter resets the LTC4210 when a low supply voltage is detected. (See Datasheet)"

## LTC4210-2IS6#TRM
designator U?
Hot Swap Controller, 2.7 to 16.5 V Vin, 6-pin SOT23 (S6-6), -40 to 85 degC, Mini Tape and Reel; Manufacturer: Linear Technology; PartNumber: LTC4210-2IS6#TRM; Active Limiting: yes; Circuit Breaker Accuracy(%): 12; Circuit Breaker Threshold: 50 mV; Circuit Breakers(#): 1; Extended Temp: C, I; Fast Comparator: no; In-Rush Current: Active; PackageVersion: Jun-10; PackageReference: S6-6; PackageDescription: 6-Pin Plastic TSOT-23, Body 2.9 x 1.63 mm, Pitch 0.95 mm; Fault: no; Foldback: no; Packing: Mini Tape and Reel; Power Good: no; Reset: no; RoHS: FALSE; Vin Range: 2.7 to 16.5 V; Mounting Technology: Surface Mount; Code_JEDEC: MO-193; ComponentLink1Description: Manufacturer URL; ComponentLink1URL: http://www.linear.com/; ComponentLink2Description: Datasheet; ComponentLink2URL: http://cds.linear.com/docs/en/datasheet/421012f.pdf; ComponentLink3Description: Package Specification; ComponentLink3URL: http://cds.linear.com/docs/en/packaging/SOT_6_05-08-1636.pdf
footprint LT-S6-6-TSOT-23_N (SOT23, 6-Leads, Body 2.9x1.75mm, Pitch 0.95mm, IPC Medium Density)
footprint LT-S6-6-TSOT-23_L (SOT23, 6-Leads, Body 2.9x1.75mm, Pitch 0.95mm, IPC High Density)
footprint LT-S6-6-TSOT-23_M (SOT23, 6-Leads, Body 2.9x1.75mm, Pitch 0.95mm, IPC Low Density)
pins: 1 TIMER (in) "Timer Input Pin. An external capacitor CTIMER sets a 272.9ms/µF initial timing delay and a 21.7ms/µF circuit breaker delay. (See Datasheet)", 2 GND (power) "GND (Pin 2): Ground Pin.", 3 ON (in) "ON (Pin 3): ON Input Pin. The ON pin comparator has a low-to-high threshold of 1.3V with 80mV hysteresis and a glitch filter. When the ON pin is low, the LTC4210 is reset. When the ON pin goes high, the GATE turns on after (See Datasheet)", 4 GATE (out) "GATE Output Pin. This pin is the high side gate drive of an external N-channel MOSFET. An internal charge pump provides a 10µA pull-up current with Zener clamps to VCC and ground. (See Datasheet)", 5 SENSE (in) "SENSE (Pin 5): Current Limit Sense Input Pin. A sense resistor between the VCC and SENSE pins sets the analog current limit. In overload, the EA controls the external MOSFET gate to maintain the SENSE pin voltage at 50mV (See Datasheet)", 6 VCC (power) "Positive Supply Input Pin. The operating supply voltage range is between 2.7V to 7V. An undervoltage lockout (UVLO) circuit with a glitch filter resets the LTC4210 when a low supply voltage is detected. (See Datasheet)"

## LTC4210-2IS6#TRMPBF
designator U?
Hot Swap Controller, 2.7 to 16.5 V Vin, 6-pin SOT23 (S6-6), -40 to 85 degC, Pb-Free, Mini Tape and Reel; Manufacturer: Linear Technology; PartNumber: LTC4210-2IS6#TRMPBF; Active Limiting: yes; Circuit Breaker Accuracy(%): 12; Circuit Breaker Threshold: 50 mV; Circuit Breakers(#): 1; Extended Temp: C, I; Fast Comparator: no; In-Rush Current: Active; PackageVersion: Jun-10; PackageReference: S6-6; PackageDescription: 6-Pin Plastic TSOT-23, Body 2.9 x 1.63 mm, Pitch 0.95 mm; Supplier 1: Digi-Key; Supplier Part Number 1: LTC4210-2IS6#TRMPBFTR-ND; Supplier 2: Digi-Key; Supplier Part Number 2: LTC4210-2IS6#TRMPBFCT-ND; Supplier 3: Digi-Key; Supplier Part Number 3: LTC4210-2IS6#TRMPBFDKR-ND; Fault: no; Foldback: no; Packing: Mini Tape and Reel; Power Good: no; Reset: no; RoHS: TRUE; Vin Range: 2.7 to 16.5 V; Mounting Technology: Surface Mount; Code_JEDEC: MO-193; ComponentLink1Description: Manufacturer URL; ComponentLink1URL: http://www.linear.com/; ComponentLink2Description: Datasheet; ComponentLink2URL: http://cds.linear.com/docs/en/datasheet/421012f.pdf; ComponentLink3Description: Package Specification; ComponentLink3URL: http://cds.linear.com/docs/en/packaging/SOT_6_05-08-1636.pdf
footprint LT-S6-6-TSOT-23_N (SOT23, 6-Leads, Body 2.9x1.75mm, Pitch 0.95mm, IPC Medium Density)
footprint LT-S6-6-TSOT-23_L (SOT23, 6-Leads, Body 2.9x1.75mm, Pitch 0.95mm, IPC High Density)
footprint LT-S6-6-TSOT-23_M (SOT23, 6-Leads, Body 2.9x1.75mm, Pitch 0.95mm, IPC Low Density)
pins: 1 TIMER (in) "Timer Input Pin. An external capacitor CTIMER sets a 272.9ms/µF initial timing delay and a 21.7ms/µF circuit breaker delay. (See Datasheet)", 2 GND (power) "GND (Pin 2): Ground Pin.", 3 ON (in) "ON (Pin 3): ON Input Pin. The ON pin comparator has a low-to-high threshold of 1.3V with 80mV hysteresis and a glitch filter. When the ON pin is low, the LTC4210 is reset. When the ON pin goes high, the GATE turns on after (See Datasheet)", 4 GATE (out) "GATE Output Pin. This pin is the high side gate drive of an external N-channel MOSFET. An internal charge pump provides a 10µA pull-up current with Zener clamps to VCC and ground. (See Datasheet)", 5 SENSE (in) "SENSE (Pin 5): Current Limit Sense Input Pin. A sense resistor between the VCC and SENSE pins sets the analog current limit. In overload, the EA controls the external MOSFET gate to maintain the SENSE pin voltage at 50mV (See Datasheet)", 6 VCC (power) "Positive Supply Input Pin. The operating supply voltage range is between 2.7V to 7V. An undervoltage lockout (UVLO) circuit with a glitch filter resets the LTC4210 when a low supply voltage is detected. (See Datasheet)"

## LTC4210-2IS6#TRPBF
designator U?
Hot Swap Controller, 2.7 to 16.5 V Vin, 6-pin SOT23 (S6-6), -40 to 85 degC, Pb-Free, Tape and Reel; Manufacturer: Linear Technology; PartNumber: LTC4210-2IS6#TRPBF; Active Limiting: yes; Circuit Breaker Accuracy(%): 12; Circuit Breaker Threshold: 50 mV; Circuit Breakers(#): 1; Extended Temp: C, I; Fast Comparator: no; In-Rush Current: Active; PackageVersion: Jun-10; PackageReference: S6-6; PackageDescription: 6-Pin Plastic TSOT-23, Body 2.9 x 1.63 mm, Pitch 0.95 mm; Supplier 1: Digi-Key; Supplier Part Number 1: LTC4210-2IS6#TRPBF-ND; Supplier 2: Newark; Supplier Part Number 2: 56M8750; Fault: no; Foldback: no; Packing: Tape and Reel; Power Good: no; Reset: no; RoHS: TRUE; Vin Range: 2.7 to 16.5 V; Mounting Technology: Surface Mount; Code_JEDEC: MO-193; ComponentLink1Description: Manufacturer URL; ComponentLink1URL: http://www.linear.com/; ComponentLink2Description: Datasheet; ComponentLink2URL: http://cds.linear.com/docs/en/datasheet/421012f.pdf; ComponentLink3Description: Package Specification; ComponentLink3URL: http://cds.linear.com/docs/en/packaging/SOT_6_05-08-1636.pdf
footprint LT-S6-6-TSOT-23_N (SOT23, 6-Leads, Body 2.9x1.75mm, Pitch 0.95mm, IPC Medium Density)
footprint LT-S6-6-TSOT-23_L (SOT23, 6-Leads, Body 2.9x1.75mm, Pitch 0.95mm, IPC High Density)
footprint LT-S6-6-TSOT-23_M (SOT23, 6-Leads, Body 2.9x1.75mm, Pitch 0.95mm, IPC Low Density)
pins: 1 TIMER (in) "Timer Input Pin. An external capacitor CTIMER sets a 272.9ms/µF initial timing delay and a 21.7ms/µF circuit breaker delay. (See Datasheet)", 2 GND (power) "GND (Pin 2): Ground Pin.", 3 ON (in) "ON (Pin 3): ON Input Pin. The ON pin comparator has a low-to-high threshold of 1.3V with 80mV hysteresis and a glitch filter. When the ON pin is low, the LTC4210 is reset. When the ON pin goes high, the GATE turns on after (See Datasheet)", 4 GATE (out) "GATE Output Pin. This pin is the high side gate drive of an external N-channel MOSFET. An internal charge pump provides a 10µA pull-up current with Zener clamps to VCC and ground. (See Datasheet)", 5 SENSE (in) "SENSE (Pin 5): Current Limit Sense Input Pin. A sense resistor between the VCC and SENSE pins sets the analog current limit. In overload, the EA controls the external MOSFET gate to maintain the SENSE pin voltage at 50mV (See Datasheet)", 6 VCC (power) "Positive Supply Input Pin. The operating supply voltage range is between 2.7V to 7V. An undervoltage lockout (UVLO) circuit with a glitch filter resets the LTC4210 when a low supply voltage is detected. (See Datasheet)"

## LTC4210-3CS6
designator U?
Hot Swap Controller, 2.7 to 7 V Vin, 6-pin SOT23 (S6-6), 0 to 70 degC; Manufacturer: Linear Technology; PartNumber: LTC4210-3CS6; Active Limiting: yes; Circuit Breaker Accuracy(%): 12; Circuit Breaker Threshold: 50 mV; Circuit Breakers(#): 1; Extended Temp: C, I; Foldback: no; DatasheetVersion: Rev. A; PackageVersion: Jun-10; PackageReference: S6-6; PackageDescription: 6-Pin Plastic TSOT-23, Body 2.9 x 1.63 mm, Pitch 0.95 mm; Fast Comparator: yes; Fault: yes; Power Good: no; Reset: yes; RoHS: FALSE; Vin Range: 2.7 to 7 V; Mounting Technology: Surface Mount; Code_JEDEC: MO-193; ComponentLink1Description: Manufacturer URL; ComponentLink1URL: http://www.linear.com/; ComponentLink2Description: Datasheet; ComponentLink2URL: http://cds.linear.com/docs/en/datasheet/421034fa.pdf; ComponentLink3Description: Package Specification; ComponentLink3URL: http://cds.linear.com/docs/en/packaging/SOT_6_05-08-1636.pdf
footprint LT-S6-6-TSOT-23_N (SOT23, 6-Leads, Body 2.9x1.75mm, Pitch 0.95mm, IPC Medium Density)
footprint LT-S6-6-TSOT-23_L (SOT23, 6-Leads, Body 2.9x1.75mm, Pitch 0.95mm, IPC High Density)
footprint LT-S6-6-TSOT-23_M (SOT23, 6-Leads, Body 2.9x1.75mm, Pitch 0.95mm, IPC Low Density)
pins: 1 TIMER (in) "Timer Input Pin. An external capacitor CTIMER sets a 272.9ms/µF initial timing delay and a 21.7ms/µF circuit breaker delay. (See Datasheet)", 2 GND (power) "GND (Pin 2): Ground Pin.", 3 ON (in) "ON (Pin 3): ON Input Pin. The ON pin comparator has a low-to-high threshold of 1.3V with 80mV hysteresis and a glitch filter. When the ON pin is low, the LTC4210 is reset. When the ON pin goes high, the GATE turns on after (See Datasheet)", 4 GATE (out) "GATE Output Pin. This pin is the high side gate drive of an external N-channel MOSFET. An internal charge pump provides a 10µA pull-up current with Zener clamps to VCC and ground. (See Datasheet)", 5 SENSE (in) "SENSE (Pin 5): Current Limit Sense Input Pin. A sense resistor between the VCC and SENSE pins sets the analog current limit. In overload, the EA controls the external MOSFET gate to maintain the SENSE pin voltage at 50mV (See Datasheet)", 6 VCC (power) "Positive Supply Input Pin. The operating supply voltage range is between 2.7V to 7V. An undervoltage lockout (UVLO) circuit with a glitch filter resets the LTC4210 when a low supply voltage is detected. (See Datasheet)"

## LTC4210-3CS6#PBF
designator U?
Hot Swap Controller, 2.7 to 7 V Vin, 6-pin SOT23 (S6-6), 0 to 70 degC, Pb-Free; Manufacturer: Linear Technology; PartNumber: LTC4210-3CS6#PBF; Active Limiting: yes; Circuit Breaker Accuracy(%): 12; Circuit Breaker Threshold: 50 mV; Circuit Breakers(#): 1; Extended Temp: C, I; Foldback: no; DatasheetVersion: Rev. A; PackageVersion: Jun-10; PackageReference: S6-6; PackageDescription: 6-Pin Plastic TSOT-23, Body 2.9 x 1.63 mm, Pitch 0.95 mm; Supplier 1: Farnell; Supplier Part Number 1: 2295323; Fast Comparator: yes; Fault: yes; Power Good: no; Reset: yes; RoHS: TRUE; Vin Range: 2.7 to 7 V; Mounting Technology: Surface Mount; Code_JEDEC: MO-193; ComponentLink1Description: Manufacturer URL; ComponentLink1URL: http://www.linear.com/; ComponentLink2Description: Datasheet; ComponentLink2URL: http://cds.linear.com/docs/en/datasheet/421034fa.pdf; ComponentLink3Description: Package Specification; ComponentLink3URL: http://cds.linear.com/docs/en/packaging/SOT_6_05-08-1636.pdf
footprint LT-S6-6-TSOT-23_N (SOT23, 6-Leads, Body 2.9x1.75mm, Pitch 0.95mm, IPC Medium Density)
footprint LT-S6-6-TSOT-23_L (SOT23, 6-Leads, Body 2.9x1.75mm, Pitch 0.95mm, IPC High Density)
footprint LT-S6-6-TSOT-23_M (SOT23, 6-Leads, Body 2.9x1.75mm, Pitch 0.95mm, IPC Low Density)
pins: 1 TIMER (in) "Timer Input Pin. An external capacitor CTIMER sets a 272.9ms/µF initial timing delay and a 21.7ms/µF circuit breaker delay. (See Datasheet)", 2 GND (power) "GND (Pin 2): Ground Pin.", 3 ON (in) "ON (Pin 3): ON Input Pin. The ON pin comparator has a low-to-high threshold of 1.3V with 80mV hysteresis and a glitch filter. When the ON pin is low, the LTC4210 is reset. When the ON pin goes high, the GATE turns on after (See Datasheet)", 4 GATE (out) "GATE Output Pin. This pin is the high side gate drive of an external N-channel MOSFET. An internal charge pump provides a 10µA pull-up current with Zener clamps to VCC and ground. (See Datasheet)", 5 SENSE (in) "SENSE (Pin 5): Current Limit Sense Input Pin. A sense resistor between the VCC and SENSE pins sets the analog current limit. In overload, the EA controls the external MOSFET gate to maintain the SENSE pin voltage at 50mV (See Datasheet)", 6 VCC (power) "Positive Supply Input Pin. The operating supply voltage range is between 2.7V to 7V. An undervoltage lockout (UVLO) circuit with a glitch filter resets the LTC4210 when a low supply voltage is detected. (See Datasheet)"